# Altium footprint library PCB-Other-USB.PCBLIB: 4 footprints
Each footprint in its own frame and in the unit in brackets; x right, y up, seen from the top. Pads: shape width x height; smd on the part's side, far side on the other; paste and mask are expansions set on the pad; w line width, h text height; cw(c..) or ccw(c..) is an arc to the next point about the centre after c.
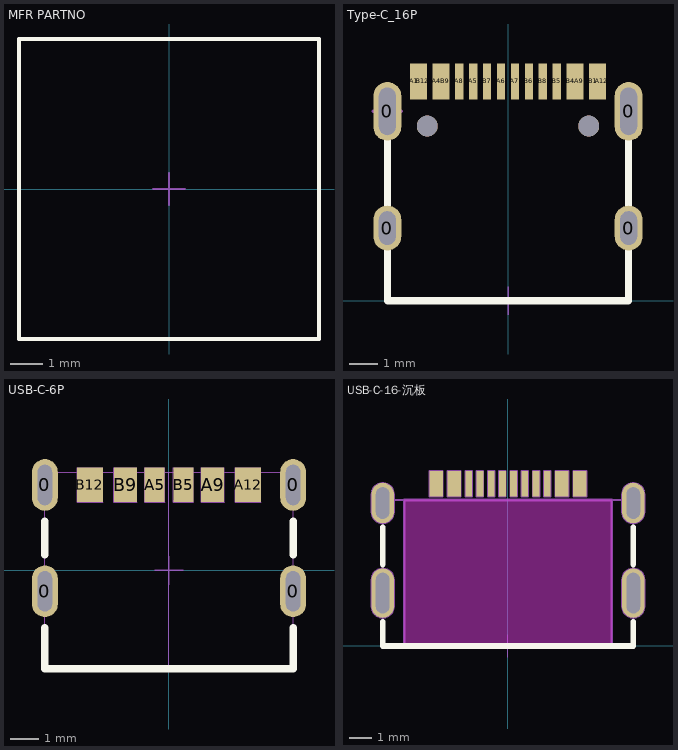
[diagram p0: the footprints below, top view; thin cyan lines are the x and y axes]

## MFR PARTNO [mm] "记得设置高度"
Top Overlay:
  lines w0.127: -4.7,-4.7 -4.7,4.7 4.7,4.7 4.7,-4.7 -4.7,-4.7
Top 元件外形:
  lines w0.127: -4.7,-4.7 4.7,-4.7 4.7,4.7 -4.7,4.7 -4.7,-4.7
Top 中心点:
  lines w0.051: -0.5,0 0.5,0 ; 0,-0.5 0,0.5

## Type-C_16P [mm]
pads (22):
  oval 1x1.6 hole 0.6 slot 1.2 at 90 deg: 0(-4.32,2.603) 0(4.32,2.603)
  oval 1x2.1 hole 0.6 slot 1.7 at 90 deg: 0(-4.32,6.783) 0(4.32,6.783)
  rect 0.3x1.3 smd: A1(-3.35,7.85) A4(-2.55,7.85) A5(-1.25,7.85) A6(-0.25,7.85) A7(0.25,7.85) A8(-1.75,7.851) A9(2.55,7.85) A12(3.35,7.85) B1(3.05,7.85) B4(2.25,7.85) B5(1.75,7.85) B6(0.75,7.85) B7(-0.75,7.85) B8(1.25,7.851) B9(-2.25,7.85) B12(-3.05,7.85)
  round 0.75 hole 0.75 unplated: ""(-2.89,6.253) ""(2.89,6.253)
Top Overlay:
  lines w0.254: -4.32,7.698 -4.32,0 4.32,0 4.32,7.698
Top 中心点:
  lines w0.051: -0.5,0 0.5,0 ; 0,-0.5 0,0.5
  lines w0.127: -4.82,6.783 -3.82,6.783 ; -4.32,6.283 -4.32,7.283
3D body "USB Type-C_A.STEP": height 3.25, standoff -0.85, extent -4.47,0.087 4.47,7.987

## USB-C-6P [mm]
pads (10):
  oval 0.9x1.8 hole 0.5 slot 1.4 at 90 deg: 0(-4.32,-0.725) 0(-4.32,2.975) 0(4.32,-0.725) 0(4.32,2.975)
  rect 0.7x1.2 smd: A5(-0.5,2.975) B5(0.5,2.975)
  rect 0.8x1.2 smd: A9(1.52,2.975) B9(-1.52,2.975)
  rect 0.9x1.2 smd: A12(2.75,2.975) B12(-2.75,2.975)
Top Overlay:
  lines w0.254: -4.32,-1.99 -4.32,-3.425 0,-3.425 4.32,-3.425 4.32,-1.99 ; -4.32,0.54 -4.32,1.71 ; 4.32,0.54 4.32,1.71
Top 元件外形:
  lines w0.013: -4.32,-0.725 -4.32,2.975 ; -4.32,-0.275 -4.32,-1.175 -4.32,-3.275 -4.32,-3.425 0,-3.425 ; -4.32,2.525 -4.32,3.425 4.32,3.425 4.32,2.525 ; 0,3.425 0,-3.425 ; 4.32,-0.725 4.32,2.975 ; 4.32,-0.275 4.32,-1.175 4.32,-3.425 0,-3.425 ; -3.2,2.375 -3.2,3.575 ; -3.2,2.375 -2.3,2.375 ; -3.2,2.375 -2.3,3.575 ; -3.2,3.575 -2.3,3.575 ; -3.2,3.575 -2.3,2.375 ; -2.3,2.375 -2.3,3.575 ; -1.92,2.375 -1.92,3.575 ; -1.92,2.375 -1.12,2.375 ; -1.92,2.375 -1.12,3.575 ; -1.92,3.575 -1.12,3.575 ; -1.92,3.575 -1.12,2.375 ; -1.12,2.375 -1.12,3.575 ; -0.85,2.375 -0.15,2.375 ; -0.85,2.375 -0.85,3.575 ; -0.85,2.375 -0.15,3.575 ; -0.85,3.575 -0.15,3.575 ; -0.85,3.575 -0.15,2.375 ; -0.15,2.375 -0.15,3.575 ; 0.15,2.375 0.85,2.375 ; 0.15,2.375 0.15,3.575 ; 0.15,2.375 0.85,3.575 ; 0.15,3.575 0.85,3.575 ; 0.15,3.575 0.85,2.375 ; 0.85,2.375 0.85,3.575 ; 1.12,2.375 1.92,3.575 ; 1.12,2.375 1.12,3.575 ; 1.12,2.375 1.92,2.375 ; 1.12,3.575 1.92,3.575 ; 1.12,3.575 1.92,2.375 ; 1.92,2.375 1.92,3.575 ; 2.3,2.375 3.2,3.575 ; 2.3,2.375 2.3,3.575 ; 2.3,2.375 3.2,2.375 ; 2.3,3.575 3.2,2.375 ; 2.3,3.575 3.2,3.575 ; 3.2,2.375 3.2,3.575 ; -4.57,-1.175 ccw(c-4.32,-1.175) -4.07,-1.175 -4.07,-0.275 ccw(c-4.32,-0.275) -4.57,-0.275 -4.57,-1.175 ; -4.57,2.525 ccw(c-4.32,2.525) -4.07,2.525 -4.07,3.425 ccw(c-4.32,3.425) -4.57,3.425 -4.57,2.525 ; 4.07,-1.175 ccw(c4.32,-1.175) 4.57,-1.175 4.57,-0.275 ccw(c4.32,-0.275) 4.07,-0.275 4.07,-1.175 ; 4.07,2.525 ccw(c4.32,2.525) 4.57,2.525 4.57,3.425 ccw(c4.32,3.425) 4.07,3.425 4.07,2.525
Top 中心点:
  lines w0.051: -0.5,0 0.5,0 ; 0,-0.5 0,0.5

## USB-C-16-沉板 [mm]
pads (20):
  rect 0.3x1.15 smd mask+0.05: A1(-3.35,7.22) A4(-2.55,7.22) A5(-1.25,7.22) A6(-0.25,7.22) A7(0.25,7.22) A8(1.25,7.22) A9(2.55,7.22) A12(3.35,7.22) B1(3.05,7.22) B4(2.25,7.22) B5(1.75,7.22) B6(0.75,7.22) B7(-0.75,7.22) B8(-1.75,7.22) B9(-2.25,7.22) B12(-3.05,7.22)
  oval 1x2.2 hole 0.6 slot 1.8 at 90 deg mask+0.05: ""(-5.575,2.352) ""(5.575,2.352)
  oval 1x1.8 hole 0.6 slot 1.4 at 90 deg mask+0.05: ""(-5.575,6.358) ""(5.575,6.358)
Top Overlay:
  lines w0.254: -5.575,1.075 -5.575,0 5.575,0 5.575,1.075 ; -5.575,3.629 -5.575,5.281 ; 5.575,3.629 5.575,5.281
Keep-Out Layer:
  board cut-out: -4.62,0 -4.62,6.5 4.62,6.5 4.62,0
Board:
  lines w0.127: -4.62,0 4.62,0 4.62,6.5 -4.62,6.5 -4.62,0
Fab Notes:
  circle w0.076: c5.575,2.355 r0.003
  circle w0.076: c5.575,6.355 r0.003
  circle w0.076: c-5.575,6.355 r0.003
  circle w0.076: c-5.575,2.355 r0.003
  lines w0.076: -5.075,6.5 5.075,6.5 ; -4.62,0 -4.62,6.5 ; -3.5,7.22 -3.2,7.22 -2.9,7.22 ; -2.7,7.22 -2.4,7.22 -2.1,7.22 ; -2.4,7.275 -2.4,7.795 ; -1.9,7.22 -1.6,7.22 ; -1.4,7.22 -1.1,7.22 ; -0.9,7.22 -0.6,7.22 ; -0.4,7.22 -0.1,7.22 ; 0.1,7.22 0.4,7.22 ; 0.6,7.22 0.9,7.22 ; 1.1,7.22 1.4,7.22 ; 1.6,7.22 1.9,7.22 ; 2.1,7.22 2.4,7.22 2.7,7.22 ; 2.9,7.22 3.2,7.22 3.5,7.22 ; 4.62,0 4.62,6.5 ; -3.2,6.645 -3.5,6.645 -3.5,7.795 -3.2,7.795 ; -3.2,6.645 -3.2,7.795 ; -3.2,6.645 -3.2,7.795 ; -3.2,6.645 -2.9,6.645 -2.9,7.795 -3.2,7.795 ; -2.4,6.645 -2.7,6.645 -2.7,7.795 -2.4,7.795 ; -2.4,6.645 -2.4,7.795 ; -2.4,6.645 -2.4,7.795 ; -2.4,6.645 -2.1,6.645 -2.1,7.795 -2.4,7.795 ; 2.4,6.645 2.7,6.645 2.7,7.795 2.4,7.795 ; 2.4,6.645 2.4,7.795 ; 2.4,6.645 2.4,7.795 ; 2.4,6.645 2.1,6.645 2.1,7.795 2.4,7.795 ; 3.2,6.645 3.5,6.645 3.5,7.795 3.2,7.795 ; 3.2,6.645 3.2,7.795 ; 3.2,6.645 3.2,7.795 ; 3.2,6.645 2.9,6.645 2.9,7.795 3.2,7.795 ; -6.075,1.755 ccw(c-5.575,1.755) -5.075,1.755 -5.075,2.955 ccw(c-5.575,2.955) -6.075,2.955 -6.075,1.755 ; -6.075,5.955 ccw(c-5.575,5.955) -5.075,5.955 -5.075,6.755 ccw(c-5.575,6.755) -6.075,6.755 -6.075,5.955 ; -5.575,0 -5.575,6.5 5.575,6.5 5.575,0 -5.575,0 ; -1.9,6.645 -1.9,7.795 -1.6,7.795 -1.6,6.645 -1.9,6.645 ; -1.4,6.645 -1.4,7.795 -1.1,7.795 -1.1,6.645 -1.4,6.645 ; -0.9,6.645 -0.9,7.795 -0.6,7.795 -0.6,6.645 -0.9,6.645 ; -0.4,6.645 -0.4,7.795 -0.1,7.795 -0.1,6.645 -0.4,6.645 ; 0.1,6.645 0.4,6.645 0.4,7.795 0.1,7.795 0.1,6.645 ; 0.6,6.645 0.9,6.645 0.9,7.795 0.6,7.795 0.6,6.645 ; 1.1,6.645 1.4,6.645 1.4,7.795 1.1,7.795 1.1,6.645 ; 1.6,6.645 1.9,6.645 1.9,7.795 1.6,7.795 1.6,6.645 ; 5.075,1.755 ccw(c5.575,1.755) 6.075,1.755 6.075,2.955 ccw(c5.575,2.955) 5.075,2.955 5.075,1.755 ; 5.075,5.955 ccw(c5.575,5.955) 6.075,5.955 6.075,6.755 ccw(c5.575,6.755) 5.075,6.755 5.075,5.955
Top 中心点:
  lines w0.051: -0.5,0 0.5,0 ; 0,-0.5 0,0.5
3D body "xb-acf002-5r.stp": height 1.32, standoff -1.86, extent -5.77,0 5.77,7.2